# Altium schematic symbol library VLC_Components_Lib.SchLib: 11 symbols
Pins are listed as number, name and electrical type; pins without a type are passive.

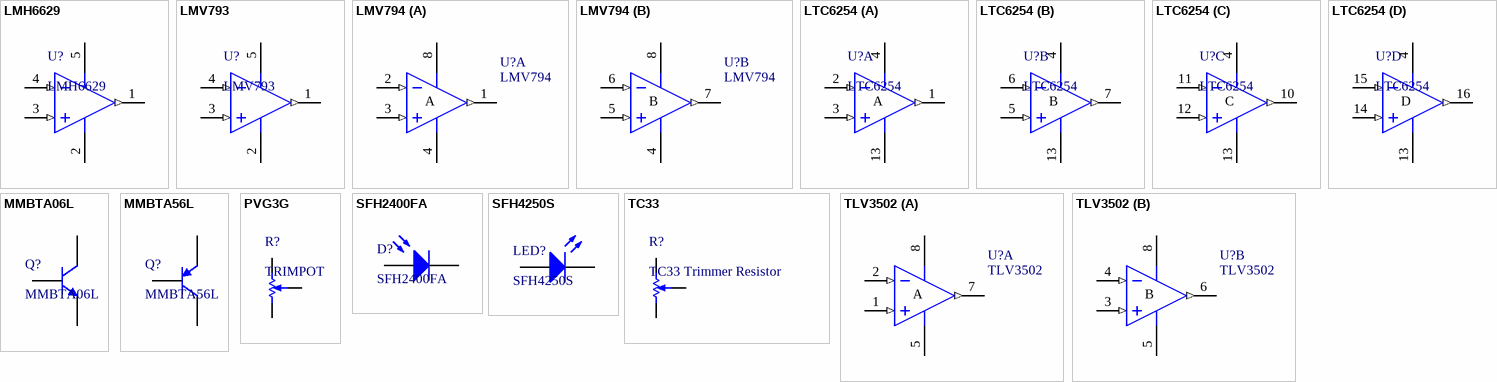
[diagram p0: symbols LMH6629 to TLV3502]

## LMH6629
designator U?
IC OPAMP VFB 1GHZ SOT23-5
footprint LMV793 (88 MHz, Low Noise, 1.8V CMOS Input, Decompensated Operational Amplifiers)
pins: 1 OUT (out), 2 V- (power), 3 IN+ (in), 4 IN- (in), 5 V+ (power)

## LMV793
designator U?
88 MHz, Low Noise, 1.8V CMOS Input, Decompensated Operational Amplifiers
footprint LMV793 (88 MHz, Low Noise, 1.8V CMOS Input, Decompensated Operational Amplifiers)
pins: 1 OUT (out), 2 V- (power), 3 IN+ (in), 4 IN- (in), 5 V+ (power)

## LMV794
designator U?
General Purpose Amplifier 2 Circuit Rail-to-Rail 8-SOIC; Published: 16-Jan-2001; LatestRevisionDate: 13-Apr-2006; LatestRevisionNote: IPC-7351 Footprint Added.; DatasheetVersion: Aug-1994; PackageVersion: Jan-1998; PackageReference: D008; Publisher: Altium Limited; PackageDescription: 8-Pin Small Outline Integrated Circuit 1.27 mm Pitch; Code_IPC: SOIC127P600-8; ComponentLink1Description: Manufacturer Link; ComponentLink1URL: http://www.ti.com/; ComponentLink2Description: Datasheet; ComponentLink2URL: http://www-s.ti.com/sc/ds/lf353.pdf
footprint LMV794 (IC OPAMP GP 88MHZ RRO 8SOIC)
pins on every part: 4 V- (power), 8 V+ (power)
part A pins: 1 OUT (out), 2 IN- (in), 3 IN+ (in)
part B pins: 5 IN+ (in), 6 IN- (in), 7 OUT (out)
part A text: A
part B text: B

## LTC6254
designator U?
IC OPAMP GP 720MHZ RRO 16MSOP
footprint LTC6254 (720MHz, 3.5mA Power Efficient Rail-to-Rail I/O Op Amps)
part A pins: 1 OUT (out), 2 IN- (in), 3 IN+ (in), 4 V+ (power), 13 V- (power)
part B pins: 4 V+ (power), 5 IN+ (in), 6 IN- (in), 7 OUT (out), 13 V- (power)
part C pins: 4 V+ (power), 10 OUT (out), 11 IN- (in), 12 IN+ (in), 13 V- (power)
part D pins: 4 V+ (power), 13 V- (power), 14 IN+ (in), 15 IN- (in), 16 OUT (out)
part A text: A
part B text: B
part C text: C
part D text: D

## MMBTA06L
designator Q?
Bipolar (BJT) Transistor NPN 80V 500mA 100MHz 225mW Surface Mount SOT-23-3 (TO-236)
footprint MMBTA06L (Bipolar (BJT) Transistor NPN 80V 500mA 100MHz 225mW Surface Mount SOT-23-3 (TO-236))
pins: 1 B, 2 E, 3 C

## MMBTA56L
designator Q?
Bipolar (BJT) Transistor PNP 80V 500mA 50MHz 225mW Surface Mount SOT-23-3 (TO-236)
footprint MMBTA56L (Bipolar (BJT) Transistor PNP 80V 500mA 50MHz 225mW Surface Mount SOT-23-3 (TO-236))
pins: 1 B, 2 E, 3 C

## PVG3G
designator R?, comment TRIMPOT
TRIMMER 2M OHM 0.25W SMD
footprint PVG3G (TRIMMER 2M OHM 0.25W SMD)
pins: 1 +, 2 W, 3 -

## SFH2400FA
designator D?
Photodiode 900nm 5ns 120° 3-SMD, Gull Wing
footprint SFH2400FA (Photodiode 900nm 5ns 120° 3-SMD, Gull Wing)
pins: 1 K, 3 A

## SFH4250S
designator LED?
Infrared (IR) Emitter 860nm 3.1V 100mA 30mW/sr @ 100mA 120° 4-PLCC
footprint SFH4250S (Infrared (IR) Emitter 860nm 3.1V 100mA 30mW/sr @ 100mA 120° 4-PLCC)
pins: 1 K, 2, 3, 4 A

## TC33
designator R?, comment TC33 Trimmer Resistor
TRIMMER 100 OHM TO 1 MOHM 0.1W SMD
footprint TC33 (TRIMMER 100 OHM TO 1 MOMH 0.1W SMD)
pins: 1 +, 2 W, 3 -

## TLV3502
designator U?
4.5-ns Rail-to-Rail High-Speed Comparator; Published: 16-Jan-2001; LatestRevisionDate: 04-Mar-2005; LatestRevisionNote: Stylized 3D Model Added.; DatasheetVersion: Aug-1994; PackageVersion: Jun-1999; PackageReference: P008; Publisher: Altium Limited; PackageDescription: DIP; 8 Leads; Row Spacing 7.62 mm; Pitch 2.54 mm; Code_JEDEC: MO-001-AN; ComponentLink1Description: Manufacturer Link; ComponentLink1URL: http://www.ti.com/; ComponentLink2Description: Datasheet; ComponentLink2URL: http://www-s.ti.com/sc/ds/lf353.pdf
footprint P008 (DIP; 8 Leads; Row Spacing 7.62 mm; Pitch 2.54 mm)
3D model P008 (DIP; 8 Leads; Row Spacing 7.62 mm; Pitch 2.54 mm)
simulation model LF353 (SUBCKT)
pins on every part: 5 V- (power), 8 V+ (power)
part A pins: 1 IN+ (in), 2 IN- (in), 7 OUT (out)
part B pins: 3 IN+ (in), 4 IN- (in), 6 OUT (out)
part A text: A
part B text: B